# EAGLE library part 5103308-2 (library Tyco_By_element14_Batch_1)
HEADER, 2.54MM, 14WAY
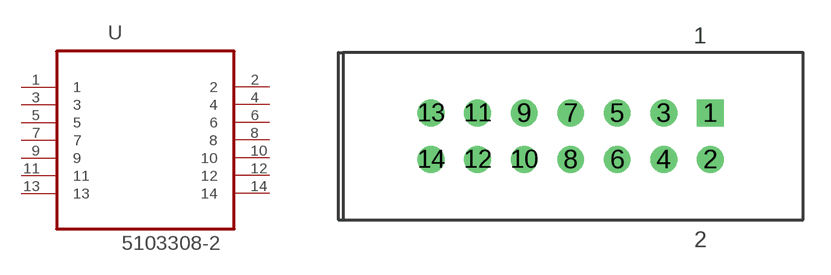
[diagram p94: symbol with the pads of TYCO_5103308-2; footprint TYCO_5103308-2]

Designator prefix U

## 5103308-2 (MPN: 5103308-2; OC_FARNELL: 1772816; OC_NEWARK: 73K2063; PACKAGE: HEADER, 2.54MM, 14WAY; SUPPLIER: Tyco Electronics)  [TYCO_5103308-2]
1  1  pas
2  2  pas
3  3  pas
4  4  pas
5  5  pas
6  6  pas
7  7  pas
8  8  pas
9  9  pas
10  10  pas
11  11  pas
12  12  pas
13  13  pas
14  14  pas

## Footprint TYCO_5103308-2 (pad centres in mm)
drill 0.965 square: 1 0,2.54
drill 0.965: 2 0,0; 3 -2.54,2.54; 4 -2.54,0; 5 -5.08,2.54; 6 -5.08,0; 7 -7.62,2.54; 8 -7.62,0; 9 -10.16,2.54; 10 -10.16,0; 11 -12.7,2.54; 12 -12.7,0; 13 -15.24,2.54; 14 -15.24,0